# Altium footprint library hdmiMini-685119136923.PcbLib: 1 footprints
Each footprint in its own frame and in the unit in brackets; x right, y up, seen from the top. Pads: shape width x height; smd on the part's side, far side on the other; paste and mask are expansions set on the pad; w line width, h text height; cw(c..) or ccw(c..) is an arc to the next point about the centre after c.
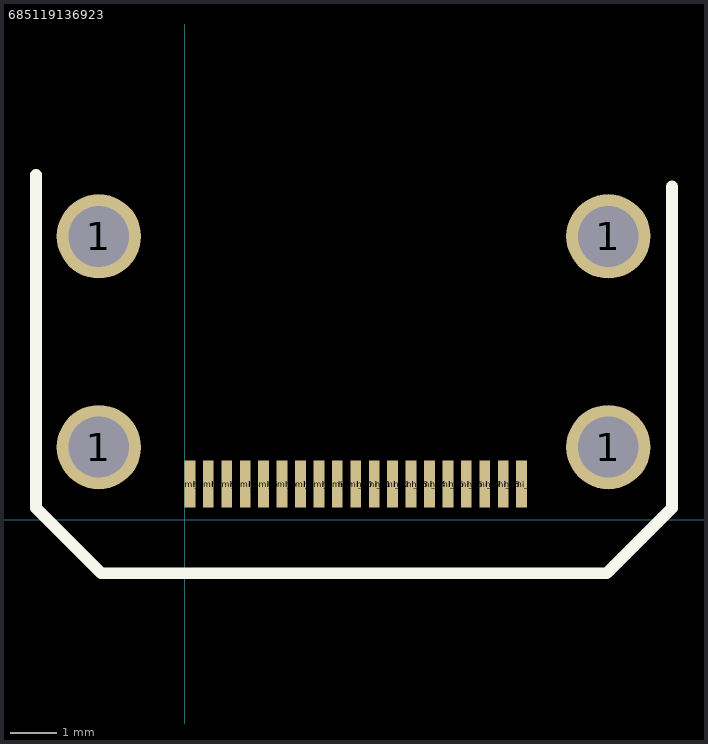
[diagram p0: the footprint, top view; thin cyan lines are the x and y axes]

## 685119136923 [mm] "19 pad, 1mmx.23mm, .4mm pitch"
pads (23):
  round 1.8 hole 1.3: 1(-1.83,1.55) 1(-1.83,6.05) 1(9.05,1.55) 1(9.05,6.05)
  rect 0.23x1 smd: hdmi_1(0.115,0.762) hdmi_2(0.506,0.762) hdmi_3(0.902,0.762) hdmi_4(1.295,0.762) hdmi_5(1.689,0.762) hdmi_6(2.083,0.762) hdmi_7(2.476,0.762) hdmi_8(2.869,0.762) hdmi_9(3.263,0.762) hdmi_10(3.657,0.762) hdmi_11(4.05,0.762) hdmi_12(4.443,0.762) hdmi_13(4.837,0.762) hdmi_14(5.231,0.762) hdmi_15(5.624,0.762) hdmi_16(6.017,0.762) hdmi_17(6.411,0.762) hdmi_18(6.804,0.762) hdmi_19(7.198,0.762)
Top Overlay:
  lines w0.254: -3.175,7.366 -3.175,0.254 -1.778,-1.143 9.017,-1.143 10.414,0.254 10.414,7.112